# Altium footprint library PcbLib.PcbLib: 13 footprints
Each footprint in its own frame and in the unit in brackets; x right, y up, seen from the top. Pads: shape width x height; smd on the part's side, far side on the other; paste and mask are expansions set on the pad; w line width, h text height; cw(c..) or ccw(c..) is an arc to the next point about the centre after c.
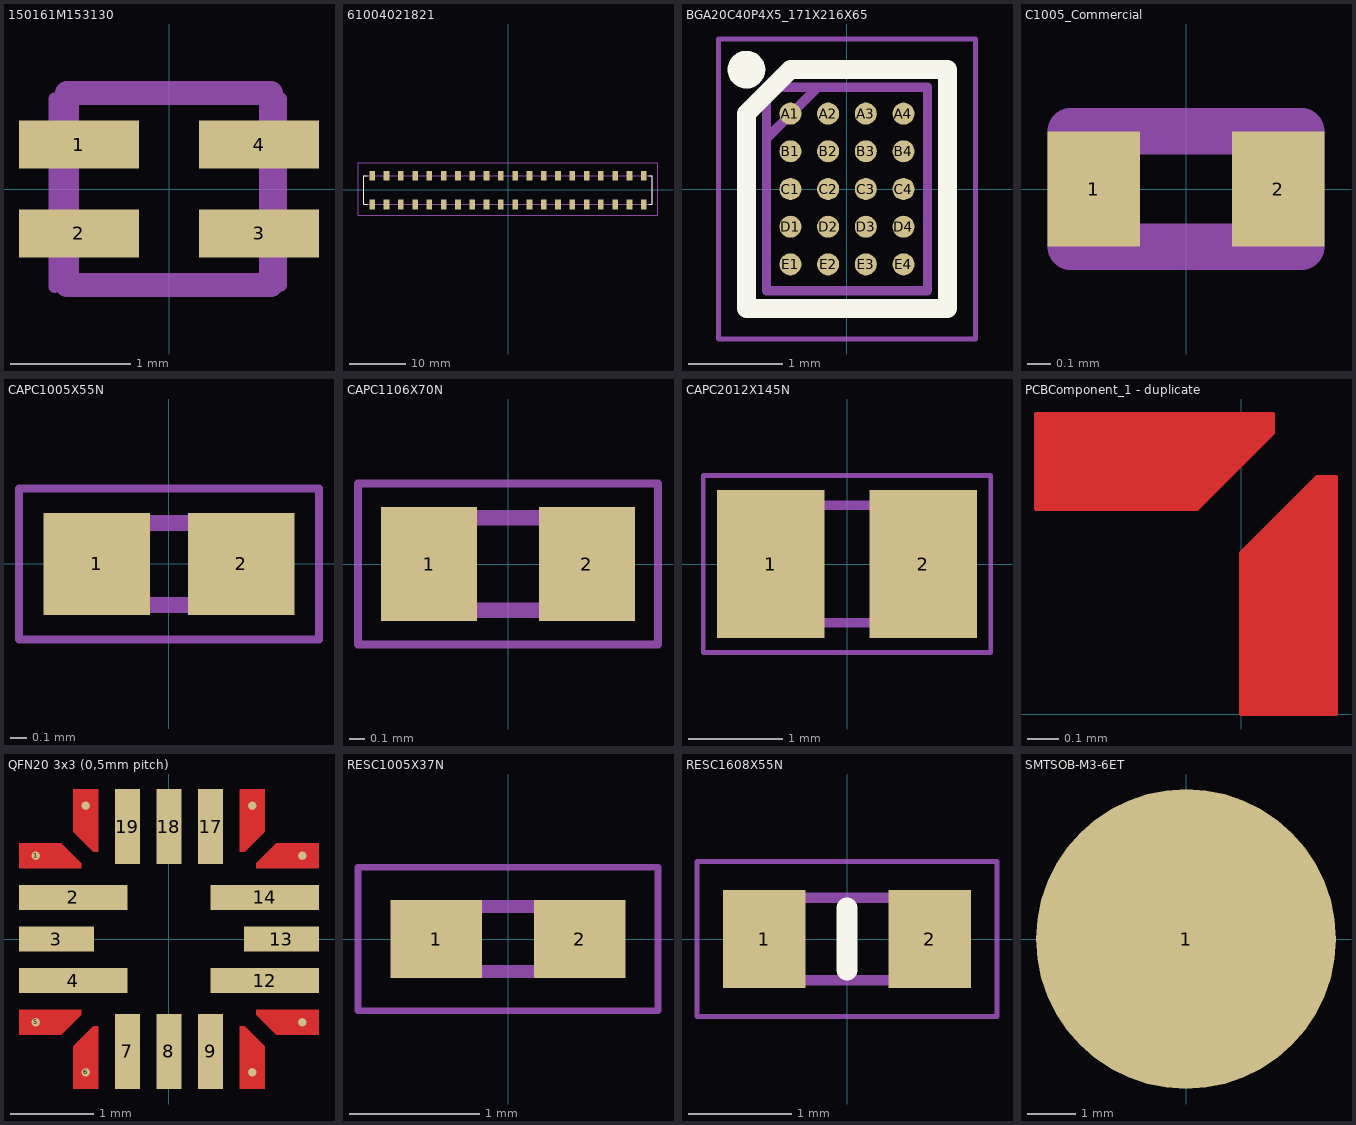
[diagram p0: the footprints below, top view; thin cyan lines are the x and y axes]

## 150161M153130 [mm]
pads (4):
  rect 1x0.4 smd: 1(-0.75,0.37) 2(-0.75,-0.37) 3(0.75,-0.37) 4(0.75,0.37)
Mechanical 13:
  lines w0.2: -0.85,-0.8 -0.85,0.8 0.85,0.8 0.85,-0.8 -0.85,-0.8
Mechanical 15:
  lines w0.1: -0.953,-0.818 -0.938,-0.803 0.933,-0.803 0.933,0.755 -0.953,0.755 -0.953,-0.818
3D body "150161M153130.stp": height 1.8, standoff 0, extent -0.85,-0.8 0.85,0.8

## 61004021821 [mm]
pads (40):
  rect 1x1.65 smd: 1(24.13,2.525) 3(21.59,2.525) 5(19.05,2.525) 7(16.51,2.525) 9(13.97,2.525) 11(11.43,2.525) 13(8.89,2.525) 15(6.35,2.525) 17(3.81,2.525) 19(1.27,2.525) 21(-1.27,2.525) 23(-3.81,2.525) 25(-6.35,2.525) 27(-8.89,2.525) 29(-11.43,2.525) 31(-13.97,2.525) 33(-16.51,2.525) 35(-19.05,2.525) 37(-21.59,2.525) 39(-24.13,2.525)
  rect 1x1.8 smd: 2(24.13,-2.6) 4(21.59,-2.6) 6(19.05,-2.6) 8(16.51,-2.6) 10(13.97,-2.6) 12(11.43,-2.6) 14(8.89,-2.6) 16(6.35,-2.6) 18(3.81,-2.6) 20(1.27,-2.6) 22(-1.27,-2.6) 24(-3.81,-2.6) 26(-6.35,-2.6) 28(-8.89,-2.6) 30(-11.43,-2.6) 32(-13.97,-2.6) 34(-16.51,-2.6) 36(-19.05,-2.6) 38(-21.59,-2.6) 40(-24.13,-2.6)
Top Overlay:
  lines w0.1: -25,-2.54 -25.65,-2.54 -25.65,2.54 -25,2.54 ; 25,-2.54 25.65,-2.54 25.65,2.54 25,2.54
Mechanical 13:
  lines w0.2: -25.65,-2.54 25.65,-2.54 25.65,2.54 -25.65,2.54 -25.65,-2.54
Mechanical 15:
  lines w0.1: -26.65,-4.5 26.65,-4.5 26.65,4.85 -26.65,4.85 -26.65,-4.5
3D body "61004021821.stp": height 7.7, standoff 0, extent -25.65,-3.4 25.65,3.4

## BGA20C40P4X5_171X216X65 [mm]
pads (20):
  round 0.234 smd: A1(-0.6,0.8) A2(-0.2,0.8) A3(0.2,0.8) A4(0.6,0.8) B1(-0.6,0.4) B2(-0.2,0.4) B3(0.2,0.4) B4(0.6,0.4) C1(-0.6,0) C2(-0.2,0) C3(0.2,0) C4(0.6,0) D1(-0.6,-0.4) D2(-0.2,-0.4) D3(0.2,-0.4) D4(0.6,-0.4) E1(-0.6,-0.8) E2(-0.2,-0.8) E3(0.2,-0.8) E4(0.6,-0.8)
Top Overlay:
  circle w0.2: c-1.067,1.267 r0.1
  lines w0.2: -1.067,-1.267 -1.067,0.8 -0.6,1.267 1.067,1.267 1.067,-1.267 -1.067,-1.267
Mechanical 13:
  lines w0.1: -0.854,0.536 -0.308,1.082 ; -0.854,-1.082 -0.854,1.082 0.855,1.082 0.855,-1.082 -0.854,-1.082
Mechanical 15:
  lines w0.05: -1.364,-1.592 -1.364,1.592 1.365,1.592 1.365,-1.592 -1.364,-1.592
3D body "LED1202JR.stp": height 0.65, standoff 0, extent -0.854,-1.082 0.854,1.082

## C1005_Commercial [mm]
pads (2):
  rect 0.4x0.5 smd: 1(-0.4,0) 2(0.4,0)
Mechanical 13:
  lines w0.2: -0.5,-0.25 0.5,-0.25 0.5,0.25 -0.5,0.25 -0.5,-0.25
3D body "C1005X7S1A225K050BC.stp": height 0.25, standoff -0.25, extent -0.509,-0.248 0.491,0.252

## CAPC1005X55N [mm]
pads (2):
  rect 0.65x0.62 smd: 1(-0.44,0) 2(0.44,0)
Mechanical 13:
  lines w0.1: -0.5,-0.25 -0.5,0.25 0.5,0.25 0.5,-0.25 -0.5,-0.25
Mechanical 15:
  lines w0.05: -0.915,-0.46 -0.915,0.46 0.915,0.46 0.915,-0.46 -0.915,-0.46
3D body "C0402C105K9PAC.stp": height 0.55, standoff 0, extent -0.52,-0.28 0.53,0.27

## CAPC1106X70N [mm]
pads (2):
  rect 0.62x0.74 smd: 1(-0.51,0) 2(0.51,0)
Mechanical 13:
  lines w0.1: -0.55,-0.3 0.55,-0.3 0.55,0.3 -0.55,0.3 -0.55,-0.3
Mechanical 15:
  lines w0.05: -0.97,-0.52 0.97,-0.52 0.97,0.52 -0.97,0.52 -0.97,-0.52
3D body "UMK105CBJ105MV-F.stp": height 0.7, standoff 0, extent -0.55,-0.3 0.55,0.3

## CAPC2012X145N [mm]
pads (2):
  rect 1.14x1.57 smd: 1(-0.81,0) 2(0.81,0)
Mechanical 13:
  lines w0.1: -1,-0.625 -1,0.625 1,0.625 1,-0.625 -1,-0.625
Mechanical 15:
  lines w0.05: -1.53,-0.94 -1.53,0.94 1.53,0.94 1.53,-0.94 -1.53,-0.94
3D body "C0805X105K5RACAUTO.stp": height 1.45, standoff 0, extent -1.17,-0.78 1.18,0.77

## PCBComponent_1 [mm]

## PCBComponent_1 - duplicate [mm]
Top Layer:
  region: -0.65,0.65 -0.14,0.65 0.1,0.89 0.1,0.95 -0.65,0.95
  region: 0,0 0,0.51 0.24,0.75 0.3,0.75 0.3,0
  lines w0.013: -0.65,0.65 -0.14,0.65 0.1,0.89 0.1,0.95 -0.65,0.95 -0.65,0.65 ; 0,0 0.3,0 0.3,0.75 0.24,0.75 0,0.51 0,0

## QFN20 3x3 (0,5mm pitch) [mm]
pads (20):
  round 0.1 smd: 1(-1.6,1) 5(-1.6,-1) 6(-1,-1.6) 10(1,-1.6) 11(1.6,-1) 15(1.6,1) 16(1,1.6) 20(-1,1.6)
  rect 1.3x0.3 smd: 2(-1.15,0.5) 4(-1.15,-0.5) 12(1.15,-0.5) 14(1.15,0.5)
  rect 0.9x0.3 smd: 3(-1.35,0) 13(1.35,0)
  rect 0.3x0.9 smd: 7(-0.5,-1.35) 8(0,-1.35) 9(0.5,-1.35) 17(0.5,1.35) 18(0,1.35) 19(-0.5,1.35)
Top Layer:
  region: -1.15,-1.8 -1.15,-1.29 -0.91,-1.05 -0.85,-1.05 -0.85,-1.8
  region: -1.8,-1.15 -1.29,-1.15 -1.05,-0.91 -1.05,-0.85 -1.8,-0.85
  region: -1.8,1.15 -1.29,1.15 -1.05,0.91 -1.05,0.85 -1.8,0.85
  region: -1.15,1.8 -1.15,1.29 -0.91,1.05 -0.85,1.05 -0.85,1.8
  region: 1.15,1.8 1.15,1.29 0.91,1.05 0.85,1.05 0.85,1.8
  region: 1.8,1.15 1.29,1.15 1.05,0.91 1.05,0.85 1.8,0.85
  region: 1.8,-1.15 1.29,-1.15 1.05,-0.91 1.05,-0.85 1.8,-0.85
  region: 1.15,-1.8 1.15,-1.29 0.91,-1.05 0.85,-1.05 0.85,-1.8
3D body: height 0.55, standoff 0, extent -1.5,-1.5 1.5,1.5

## RESC1005X37N [mm]
pads (2):
  rect 0.7x0.6 smd: 1(-0.55,0) 2(0.55,0)
Mechanical 13:
  lines w0.1: -0.5,-0.25 -0.5,0.25 0.5,0.25 0.5,-0.25 -0.5,-0.25
Mechanical 15:
  lines w0.05: -1.15,-0.55 -1.15,0.55 1.15,0.55 1.15,-0.55 -1.15,-0.55
3D body "MCS04020D1001BE000.stp": height 0.32, standoff 0, extent -0.5,-0.25 0.5,0.25

## RESC1608X55N [mm]
pads (2):
  rect 0.8x0.95 smd: 1(-0.8,0) 2(0.8,0)
Top Overlay:
  lines w0.2: 0,-0.3 0,0.3
Mechanical 13:
  lines w0.1: -0.8,-0.4 -0.8,0.4 0.8,0.4 0.8,-0.4 -0.8,-0.4
Mechanical 15:
  lines w0.05: -1.45,-0.75 -1.45,0.75 1.45,0.75 1.45,-0.75 -1.45,-0.75
3D body "RC0603JR-071KL.stp": height 0.55, standoff 0, extent -0.8,-0.4 0.8,0.4

## SMTSOB-M3-6ET [mm] "Distance M3"
pads (1):
  round 6.2 smd: 1(0,0)
3D body "SMTSOB-M3-6ET-PennEngineering-3D-11-10-2022 moded.STEP": height 6, standoff 0, extent -2.78,-2.78 2.78,2.78